# EAGLE library part COMP-TLV3502 (library bedofnails)
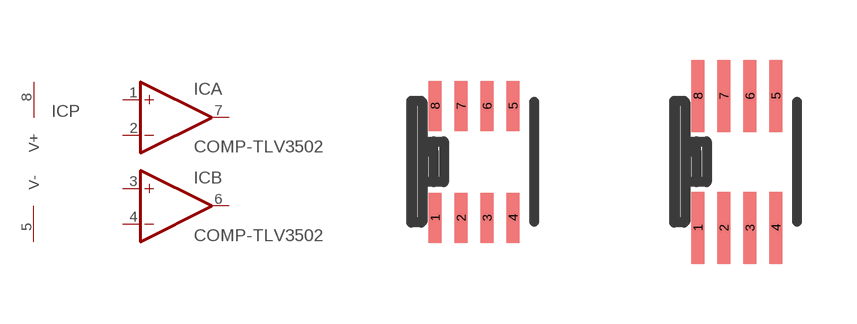
[diagram p2: symbol with the pads of SOT-23-8; footprints SOT-23-8, SOT-23-8-OR-MSOP-8]

Designator prefix IC; gates A=OPAMP B=OPAMP P=POWER-PINS

## COMP-TLV3502SOT-23-8  [SOT-23-8]
1  A:+IN  in
2  A:-IN  in
3  B:+IN  in
4  B:-IN  in
5  P:V-
6  B:OUT  out
7  A:OUT  out
8  P:V+

## COMP-TLV3502SOT-23-8-OR-MSOP-8  [SOT-23-8-OR-MSOP-8]
Pads as for SOT-23-8

## Footprint SOT-23-8 (pad centres in mm)
smd 0.325 x 1.25: 1 -0.975,-1.4; 2 -0.325,-1.4; 3 0.325,-1.4; 4 0.975,-1.4; 5 0.975,1.4; 6 0.325,1.4; 7 -0.325,1.4; 8 -0.975,1.4

## Footprint SOT-23-8-OR-MSOP-8 (pad centres in mm)
smd 0.325 x 1.8: 1 -0.975,-1.65; 2 -0.325,-1.65; 3 0.325,-1.65; 4 0.975,-1.65; 5 0.975,1.65; 6 0.325,1.65; 7 -0.325,1.65; 8 -0.975,1.65